# Altium integrated library Generic C0805 - CC0805KRX7R9BB104.IntLib: 1 symbol
Pins are listed as number, name and electrical type; pins without a type are passive.

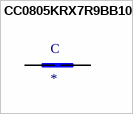
[diagram p0: symbol CC0805KRX7R9BB104]

## CC0805KRX7R9BB104
designator C
0.1ÂµF Â±10% 50V Ceramic Capacitor X7R 0805 _2012 Metric_; MF: Yageo; MP: CC0805KRX7R9BB104; Value: *; Availability: Unavailable; SnapEDA_Link: https://www.snapeda.com/parts/CC0805KRX7R9BB104/Yageo/view-part/105548/?ref=snap; Package: 0805 Yageo; Price: None
footprint CAPC2012X70
pins: 1, 2